# Altium footprint library SSCI.PcbLib: 5 footprints
Each footprint in its own frame and in the unit in brackets; x right, y up, seen from the top. Pads: shape width x height; smd on the part's side, far side on the other; paste and mask are expansions set on the pad; w line width, h text height; cw(c..) or ccw(c..) is an arc to the next point about the centre after c.
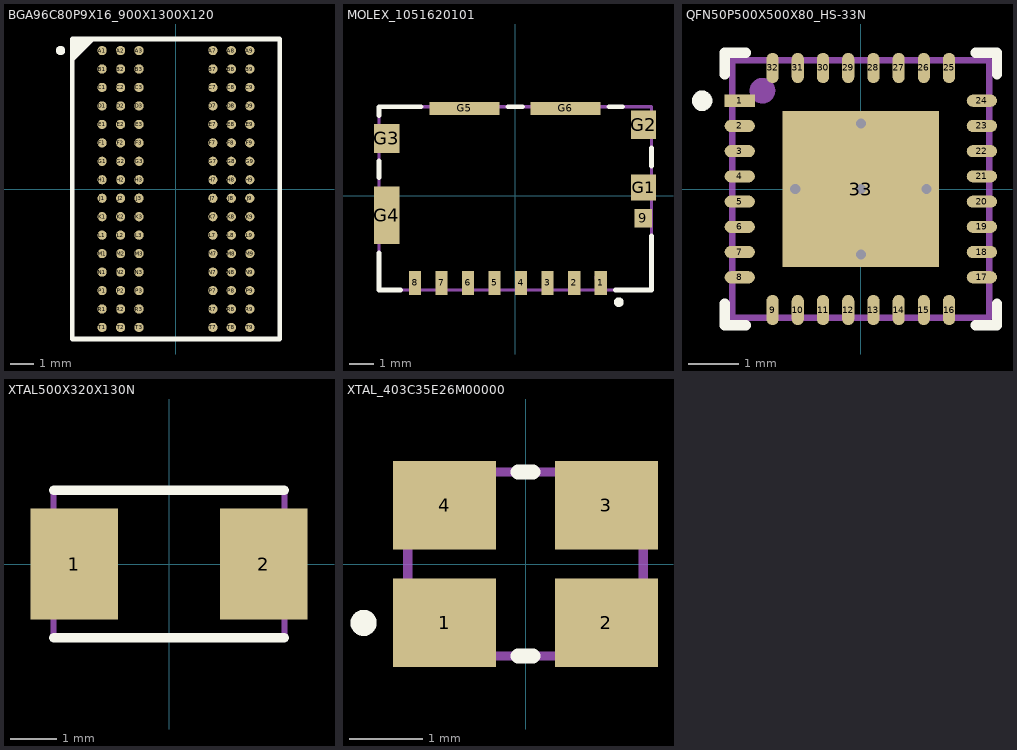
[diagram p0: the footprints below, top view; thin cyan lines are the x and y axes]

## BGA96C80P9X16_900X1300X120 [mm] "BGA, 96-Leads, Body 9.00x13.00mmx1.20mm, Pitch 0.80mm"
height 1.2
pads (96):
  round 0.4 smd mask+0.076: A1(-3.2,6) A2(-2.4,6) A3(-1.6,6) A7(1.6,6) A8(2.4,6) A9(3.2,6) B1(-3.2,5.2) B2(-2.4,5.2) B3(-1.6,5.2) B7(1.6,5.2) B8(2.4,5.2) B9(3.2,5.2) C1(-3.2,4.4) C2(-2.4,4.4) C3(-1.6,4.4) C7(1.6,4.4) C8(2.4,4.4) C9(3.2,4.4) D1(-3.2,3.6) D2(-2.4,3.6) D3(-1.6,3.6) D7(1.6,3.6) D8(2.4,3.6) D9(3.2,3.6) E1(-3.2,2.8) E2(-2.4,2.8) E3(-1.6,2.8) E7(1.6,2.8) E8(2.4,2.8) E9(3.2,2.8) F1(-3.2,2) F2(-2.4,2) F3(-1.6,2) F7(1.6,2) F8(2.4,2) F9(3.2,2) G1(-3.2,1.2) G2(-2.4,1.2) G3(-1.6,1.2) G7(1.6,1.2) G8(2.4,1.2) G9(3.2,1.2) H1(-3.2,0.4) H2(-2.4,0.4) H3(-1.6,0.4) H7(1.6,0.4) H8(2.4,0.4) H9(3.2,0.4) J1(-3.2,-0.4) J2(-2.4,-0.4) J3(-1.6,-0.4) J7(1.6,-0.4) J8(2.4,-0.4) J9(3.2,-0.4) K1(-3.2,-1.2) K2(-2.4,-1.2) K3(-1.6,-1.2) K7(1.6,-1.2) K8(2.4,-1.2) K9(3.2,-1.2) L1(-3.2,-2) L2(-2.4,-2) L3(-1.6,-2) L7(1.6,-2) L8(2.4,-2) L9(3.2,-2) M1(-3.2,-2.8) M2(-2.4,-2.8) M3(-1.6,-2.8) M7(1.6,-2.8) M8(2.4,-2.8) M9(3.2,-2.8) N1(-3.2,-3.6) N2(-2.4,-3.6) N3(-1.6,-3.6) N7(1.6,-3.6) N8(2.4,-3.6) N9(3.2,-3.6) P1(-3.2,-4.4) P2(-2.4,-4.4) P3(-1.6,-4.4) P7(1.6,-4.4) P8(2.4,-4.4) P9(3.2,-4.4) R1(-3.2,-5.2) R2(-2.4,-5.2) R3(-1.6,-5.2) R7(1.6,-5.2) R8(2.4,-5.2) R9(3.2,-5.2) T1(-3.2,-6) T2(-2.4,-6) T3(-1.6,-6) T7(1.6,-6) T8(2.4,-6) T9(3.2,-6)
Top Overlay:
  circle w0.203: c-5,6 r0.102
  region: -3.5,6.5 -4.5,5.5 -4.5,6.5
  lines w0.203: -4.5,-6.5 4.5,-6.5 4.5,6.5 -4.5,6.5 -4.5,-6.5
Mechanical 1:
  text ".Designator" at 0,0 h1.52
Assembly Top:
  region: -4.5,6.5 -4.5,5.5 -3.5,6.5
  lines w0.127: -4.5,-6.5 -4.5,6.5 4.5,6.5 4.5,-6.5 -4.5,-6.5
3D body "BGA100P9X9-81A.step": height 1.2, standoff 0, extent -4.5,-6.5 4.5,6.5

## MOLEX_1051620101 [mm] "1.45H MICRO SD HEADER WITH D/C P"
height 1.45
pads (15):
  rect 0.5x1 smd: 1(3.55,-3.617) 2(2.45,-3.617) 3(1.35,-3.617) 4(0.25,-3.617) 5(-0.85,-3.617) 6(-1.95,-3.617) 7(-3.05,-3.617) 8(-4.15,-3.617)
  rect 0.72x0.78 smd: 9(5.31,-0.937)
  rect 1.05x1.08 smd: G1(5.325,0.333)
  rect 1.05x1.2 smd: G2(5.325,2.943) G3(-5.325,2.373)
  rect 1.05x2.39 smd: G4(-5.325,-0.812)
  rect 2.91x0.55 smd: G5(-2.095,3.618) G6(2.095,3.618)
Top Overlay:
  circle w0.203: c4.3,-4.417 r0.102
  lines w0.203: -5.65,-2.367 -5.65,-3.912 -4.75,-3.912 ; -5.65,0.743 -5.65,1.433 ; -5.65,3.333 -5.65,3.688 -3.9,3.688 ; -0.29,3.688 0.31,3.688 ; 3.9,3.688 4.45,3.688 ; 4.15,-3.912 5.65,-3.912 5.65,-1.667 ; 5.65,1.233 5.65,1.983
Mechanical 1:
  text ".Designator" at 0,0 h1.52
Assembly Top:
  circle w0.254: c3.55,-3.4 r0.127
  lines w0.127: -5.65,-3.912 5.65,-3.912 5.65,3.688 -5.65,3.688 -5.65,-3.912
3D body "1051620101.stp": height 1.46, standoff 0.01, extent -5.65,-3.912 5.65,3.688

## QFN50P500X500X80_HS-33N [mm] "QFN, 32-Leads, Body 5.00x5.00mm, Pitch 0.50mm, Thermal Pad 3.10x3.10mm, IPC Medium Density"
height 0.8
pads (33):
  rect 0.6x0.24 smd mask+0.07: 1(-2.4,1.75)
  oval 0.6x0.24 smd mask+0.07: 2(-2.4,1.25) 3(-2.4,0.75) 4(-2.4,0.25) 5(-2.4,-0.25) 6(-2.4,-0.75) 7(-2.4,-1.25) 8(-2.4,-1.75) 17(2.4,-1.75) 18(2.4,-1.25) 19(2.4,-0.75) 20(2.4,-0.25) 21(2.4,0.25) 22(2.4,0.75) 23(2.4,1.25) 24(2.4,1.75)
  oval 0.24x0.6 smd mask+0.07: 9(-1.75,-2.4) 10(-1.25,-2.4) 11(-0.75,-2.4) 12(-0.25,-2.4) 13(0.25,-2.4) 14(0.75,-2.4) 15(1.25,-2.4) 16(1.75,-2.4) 25(1.75,2.4) 26(1.25,2.4) 27(0.75,2.4) 28(0.25,2.4) 29(-0.25,2.4) 30(-0.75,2.4) 31(-1.25,2.4) 32(-1.75,2.4)
  rect 3.1x3.1 smd paste-3.1 mask+0.051: 33(0,0)
via 0,1.3 diameter 0.4 hole 0.2
via -1.3,0 diameter 0.4 hole 0.2
via 0,0 diameter 0.4 hole 0.2
via 1.3,0 diameter 0.4 hole 0.2
via 0,-1.3 diameter 0.4 hole 0.2
Top Overlay:
  circle w0.203: c-3.147,1.75 r0.102
  lines w0.203: -2.7,-2.275 -2.7,-2.7 -2.275,-2.7 ; -2.7,2.275 -2.7,2.7 -2.275,2.7 ; 2.275,-2.7 2.7,-2.7 2.7,-2.275 ; 2.275,2.7 2.7,2.7 2.7,2.275
Top Paste:
  rectangle: 0.1,-1.45 1.45,-0.1
  rectangle: 0.1,0.1 1.45,1.45
  rectangle: -1.45,0.1 -0.1,1.45
  rectangle: -1.45,-1.45 -0.1,-0.1
Mechanical 1:
  text ".Designator" at 0,0 h1.52
Assembly Top:
  circle w0.254: c-1.95,1.95 r0.127
  lines w0.127: -2.55,-2.55 -2.55,2.55 2.55,2.55 2.55,-2.55 -2.55,-2.55
3D body "QFN50P500X500X80_HS-33N.step": height 0.8, standoff 0, extent -2.576,-2.576 2.576,2.576

## XTAL500X320X130N [mm] "CRYSTAL 25.0000MHZ 18PF SMD"
height 1.3
pads (2):
  rect 1.9x2.4 smd: 1(-2.05,0) 2(2.05,0)
Top Overlay:
  lines w0.203: -2.5,-1.6 2.5,-1.6 ; -2.5,1.6 2.5,1.6
Mechanical 1:
  text ".Designator" at 0,0 h1.52
Assembly Top:
  lines w0.127: -2.5,-1.6 -2.5,1.6 2.5,1.6 2.5,-1.6 -2.5,-1.6
3D body "ABM3.STEP": height 1.32, standoff 0.01, extent -2.5,-1.6 2.5,1.6

## XTAL_403C35E26M00000 [mm] "CRYSTAL 26.0000MHZ 20PF SMD"
height 0.75
pads (4):
  rect 1.4x1.2 smd paste-0.3 mask+0.102: 1(-1.1,-0.8) 2(1.1,-0.8) 3(1.1,0.8) 4(-1.1,0.8)
Top Overlay:
  circle w0.203: c-2.2,-0.8 r0.076
  lines w0.203: -0.1,-1.25 0.1,-1.25 ; -0.1,1.25 0.1,1.25
Mechanical 1:
  text ".Designator" at 0,0 h1.52
Assembly Top:
  circle w0.254: c-1,-0.65 r0.127
  lines w0.127: -1.6,-1.25 1.6,-1.25 1.6,1.25 -1.6,1.25 -1.6,-1.25
3D body "User Library-Crystal_ECX-32.STEP": height 0.82, standoff 0, extent -1.6,-1.25 1.6,1.25